# Altium schematic symbol library BLDC_Motor_Driver.SCHLIB: 68 symbols (part 1 of 2)
Pins are listed as number, name and electrical type; pins without a type are passive.

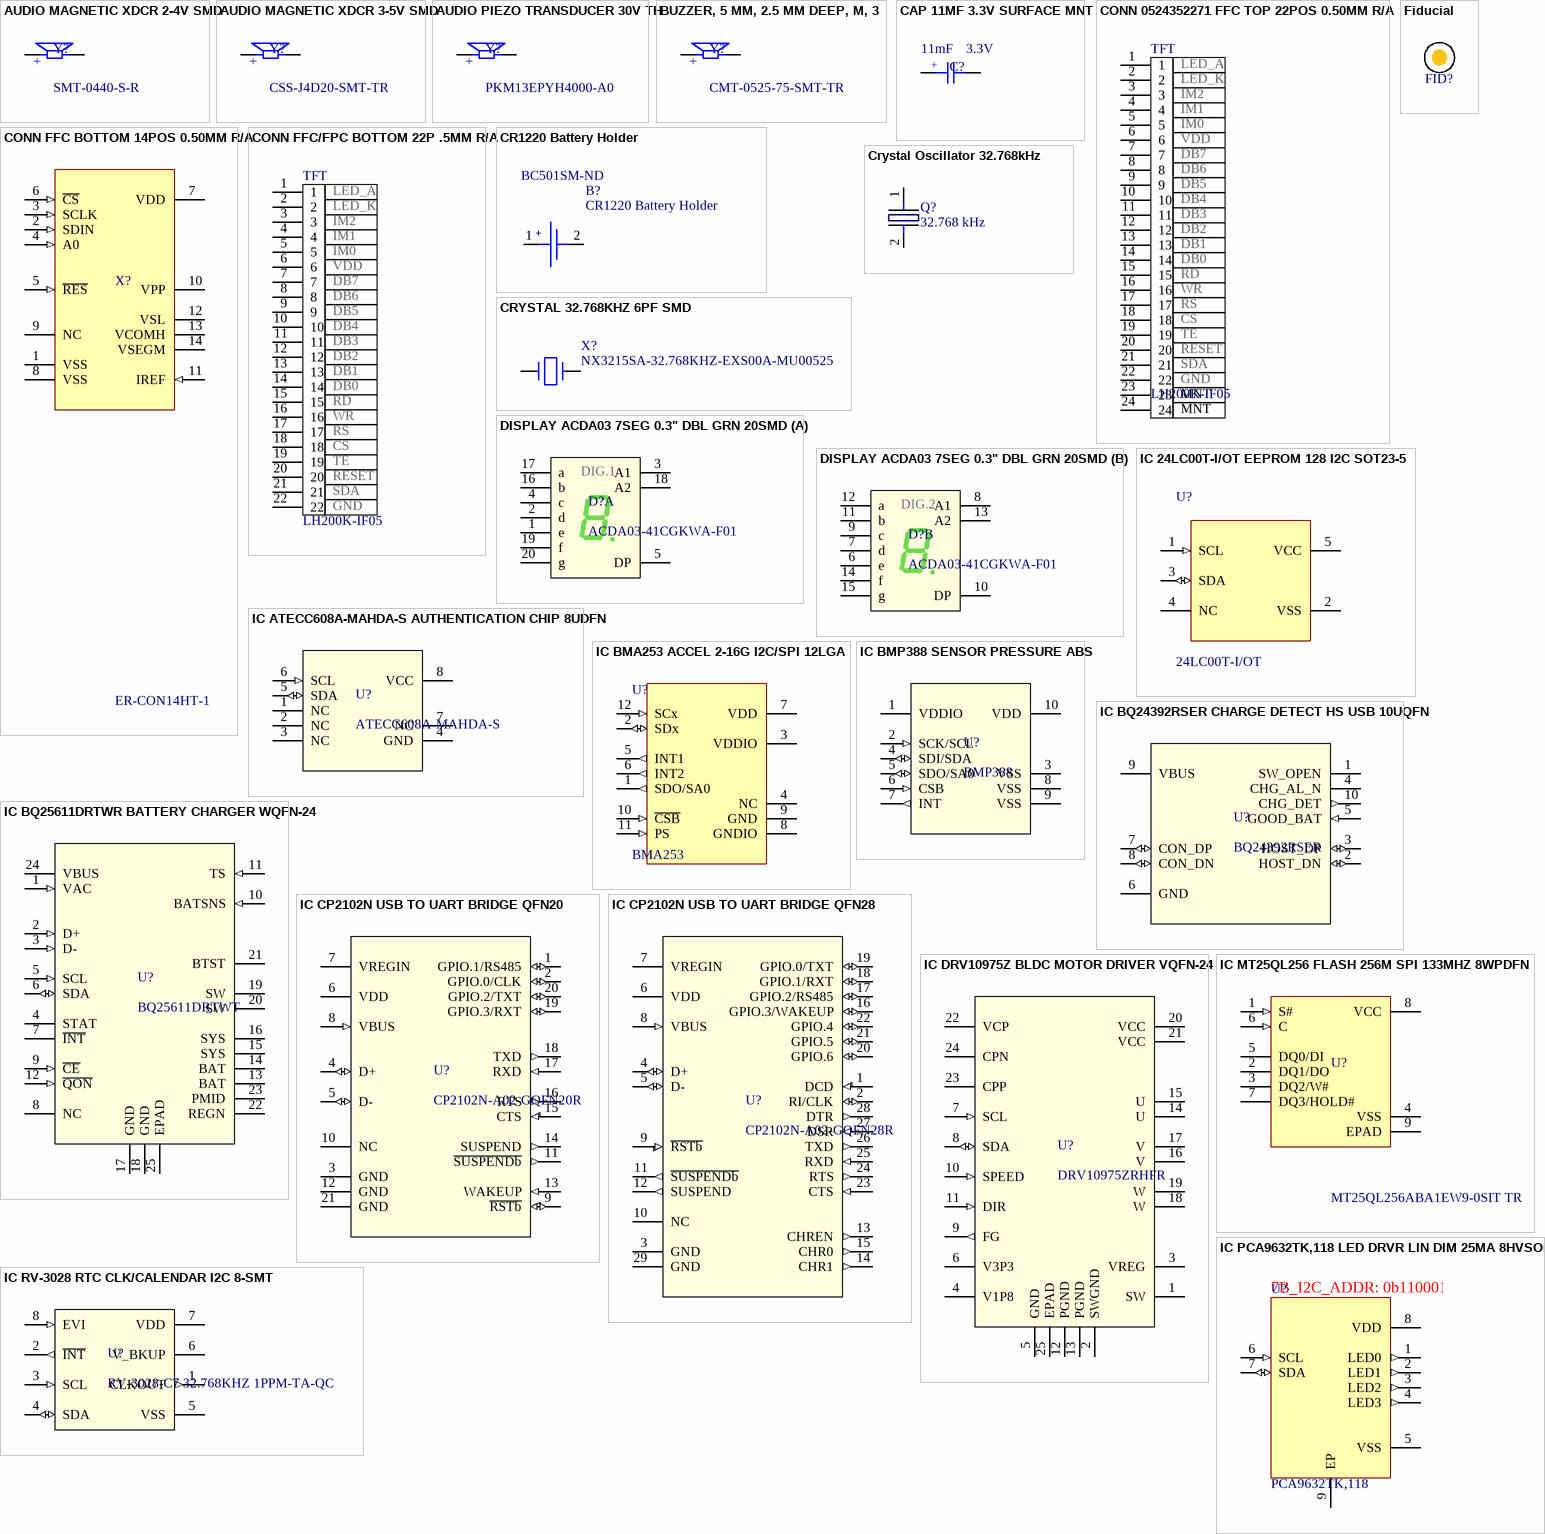
[diagram p0: symbols AUDIO MAGNETIC XDCR 2-4V SMD to IC RV-3028 RTC CLK/CALENDAR I2C 8-SMT]

## AUDIO MAGNETIC XDCR 2-4V SMD
designator Y?, comment SMT-0440-S-R
Buzzers Transducer, Externally Driven 90mA 4kHz 70dB @ 3V, 10cm Surface Mount Solder Pads; Manufacturer: Projects Unlimited; Sensing Method: Magnetic; Supplier 1: Digi-Key; Manufacturer Part Number: SMT-0440-S-R; Stock 1: 4568; Pricing 1: 1=3.25, 10=2.689, 25=2.4812, 50=2.3302, 100=2.185, 500=1.885 (USD); Mount: Surface Mount; Min Operating Temperature: -20°C; Max Operating Temperature: 70°C; Packaging: Tape and Reel; Voltage Rating: 3V; Frequency: 4kHz; Operating Supply Current: 90mA; Termination: Solder; Length: 4mm; Width: 4mm; ComponentLink1URL: http://www.puiaudio.com/pdf/SMT-0440-S-R.pdf?src-supplier=Avnet; ComponentLink1Description: http://www.puiaudio.com/pdf/SMT-0440-S-R.pdf?src-supplier=Avnet; ComponentLink2URL: http://www.mouser.com/ds/2/334/SMT-0440-S-R-535654.pdf?src-supplier=Mouser; ComponentLink2Description: http://www.mouser.com/ds/2/334/SMT-0440-S-R-535654.pdf?src-supplier=Mouser; ComponentLink3URL: http://www.puiaudio.com/pdf/SMT-0440-S-R.pdf?src-supplier=Digi-Key; ComponentLink3Description: http://www.puiaudio.com/pdf/SMT-0440-S-R.pdf?src-supplier=Digi-Key; Supplier Part Number 1: 668-1488-1-ND
footprint SMT-0440-S-R_PUI (Buzzers Transducer, Externally Driven 90mA 4kHz 70dB @ 3V, 10cm Surface Mount Solder Pads)
pins: 1, 2
text: +

## AUDIO MAGNETIC XDCR 3-5V SMD
designator Y?, comment CSS-J4D20-SMT-TR
Buzzers Transducer, Externally Driven Magnetic 3.6V 80mA 3.1kHz 90dB @ 3.6V, 5cm Surface Mount Solder Pads; Manufacturer: CUI; Supplier 1: Arrow; Manufacturer Part Number: CSS-J4D20-SMT-TR; Stock 1: 2000; Pricing 1: 1000=1.244, 1000=1.326, 20000=1.092, 50000=1.03 (USD); Mount: Surface Mount; Case/Package: SMD/SMT; Min Operating Temperature: -40°C; Max Operating Temperature: 70°C; Package Quantity: 1000; Packaging: Cut Tape; Frequency: 3.1kHz; Voltage Rating: 3.6V; Operating Supply Current: 80mA; Termination: Solder; Sensing Method: Magnetic; Length: 8.5mm; Height: 3.7mm; Width: 8.5mm; Lead Free: Lead Free; ComponentLink1URL: https://www.cui.com/product/resource/digikeypdf/css-j4d20-smt.pdf?src-supplier=Digi-Key; ComponentLink1Description: https://www.cui.com/product/resource/digikeypdf/css-j4d20-smt.pdf?src-supplier=Digi-Key; ComponentLink2URL: http://www.cui.com/product/resource/digikeypdf/css-j4d20-smt.pdf?src-supplier=Digi-Key; ComponentLink2Description: http://www.cui.com/product/resource/digikeypdf/css-j4d20-smt.pdf?src-supplier=Digi-Key; ComponentLink3URL: http://www.mouser.com/ds/2/670/css-j4d20-smt-515991.pdf?src-supplier=Mouser; ComponentLink3Description: http://www.mouser.com/ds/2/670/css-j4d20-smt-515991.pdf?src-supplier=Mouser; Supplier Part Number 1: CSS-J4D20-SMT-TR
footprint CUI_CSS-J4D20-SMT
pins: M1 M, M2 M, P1 P, P2 P
text: +

## AUDIO PIEZO TRANSDUCER 30V TH
designator Y?, comment PKM13EPYH4000-A0
Buzzers Transducer, Externally Driven Piezo 1.5V  4kHz 70dB @ 1.5V, 10cm Through Hole PC Pins; Manufacturer: Murata; Max Supply Voltage: 25V; Capacitance: 5.5nF; Voltage Rating: 3V; Voltage Rating (DC): 30V; Washable: No; Supplier 1: Digi-Key; Manufacturer Part Number: PKM13EPYH4000-A0; Stock 1: 4518; Pricing 1: 1=0.35, 10=0.296, 25=0.2772, 50=0.2628, 100=0.2489 (USD); Mount: Through Hole; Min Operating Temperature: -40°C; Max Operating Temperature: 85°C; Termination: Solder; Frequency: 4kHz; Self Resonant Frequency: 4kHz; Package Quantity: 500; Packaging: Bulk; Nominal Input Voltage: 3V; Max Frequency: 4kHz; Diameter: 12.6mm; Height: 6.9mm; Radiation Hardening: No; REACH SVHC: No SVHC; Lead Free: Lead Free; ComponentLink1URL: http://www.farnell.com/datasheets/9058.pdf?src-supplier=Element14; ComponentLink1Description: http://www.farnell.com/datasheets/9058.pdf?src-supplier=Element14; ComponentLink2URL: http://search.murata.co.jp/Ceramy/CatalogAction.do?sHinnm=?&nbsp&sNHinnm=PKM13EPYH4000-A0&sNhin_key=PKM13EPYH4000-A0&sLang=en&sParam=PKM13EPYH4000-A0&src-supplier=Avnet; ComponentLink2Description: http://search.murata.co.jp/Ceramy/CatalogAction.do?sHinnm=?&nbsp&sNHinnm=PKM13EPYH4000-A0&sNhin_key=PKM13EPYH4000-A0&sLang=en&sParam=PKM13EPYH4000-A0&src-supplier=Avnet; ComponentLink3URL: https://www.distrelec.biz/Web/Downloads/70/82/03787082.pdf?mime=application%2Fpdf&src-supplier=Distrelec; ComponentLink3Description: https://www.distrelec.biz/Web/Downloads/70/82/03787082.pdf?mime=application%2Fpdf&src-supplier=Distrelec; ComponentLink4URL: https://www.murata.com/en-sg/products/productdata/8796725772318/S0040E.pdf?src-supplier=Digi-Key; ComponentLink4Description: https://www.murata.com/en-sg/products/productdata/8796725772318/S0040E.pdf?src-supplier=Digi-Key; ComponentLink5URL: http://www.jameco.com/Jameco/Products/ProdDS/1874535.pdf?src-supplier=Jameco; ComponentLink5Description: http://www.jameco.com/Jameco/Products/ProdDS/1874535.pdf?src-supplier=Jameco; Supplier Part Number 1: 490-4698-1-ND
pins: 1 OSC1, 2 OSC2
text: +

## BUZZER, 5 MM, 2.5 MM DEEP, M, 3
designator Y?, comment CMT-0525-75-SMT-TR
Buzzers Transducer, Externally Driven Magnetic 3V 100mA 4kHz 75dB @ 3V, 10cm Surface Mount Solder Pads; Manufacturer: CUI Devices; Frequency: 4 MHz; Impedance: 12 Ohms; Shape: Square; Product Status: New Product; Supplier 1: Mouser; Manufacturer Part Number: CMT-0525-75-SMT-TR; Category: Speakers & Transducers; Stock 1: 1445; Pricing 1: 1=2.04, 10=1.61, 25=1.47, 50=1.37, 100=1.28, 250=1.16, 500=1.11, 1000=1.07, 2000=1.07 (USD); Current Rating: 100 mA; Dimensions: 5 mm L x 5 mm W x 2.5 mm H; Height: 2.5 mm; Length: 5 mm; Packaging: Cut Tape; Product: Transducers; Sound Pressure Level: 75 dB; Termination Style: SMD/SMT; Type: Electromagnetic; Voltage Rating: 3 V; Width: 5 mm; Brand: CUI Devices; Mounting Style: Board Mount; Maximum Operating Temperature: + 85 C; Minimum Operating Temperature: - 40 C; Product Type: Speakers & Transducers; Standard Pack Qty: 2000; Subcategory: Audio Devices; Minimum Order Quantity: 1; Reeling: True; ComponentLink1URL: https://www.mouser.com/datasheet/2/670/cmt-0525-75-smt-tr-1777256.pdf; ComponentLink1Description: https://www.mouser.com/datasheet/2/670/cmt-0525-75-smt-tr-1777256.pdf; Supplier 2: Digi-Key; Supplier Part Number 1: 490-CMT-0525-75SMTTR; Supplier Part Number 2: 102-CMT-0525-75-SMT-CT-ND
pins: 1 OSC1, 2 OSC2
text: +

## CAP 11MF 3.3V SURFACE MNT
designator C?  Capacitance: 11mF  Voltage Rating: 3.3V
11mF (EDLC) Supercapacitor 3.3V 1210 (3225 Metric); Manufacturer: Seiko; Manufacturer Part Number: CPH3225A; ESR (Equivalent Series Resistance): 160R; Supplier 1: Digi-Key; Stock 1: 48098; Pricing 1: 1=2.02, 10=1.634, 50=1.4256, 100=1.2474, 500=0.9504, 1000=0.8316, 2500=0.8019, 5000=0.7722 (USD); Mount: Surface Mount; Case/Package: 1210; Case Code (Metric): 3225; Case Code (Imperial): 1210; Min Operating Temperature: -20°C; Max Operating Temperature: 60°C; Package Quantity: 2000; Packaging: Tape and Reel; Voltage Rating (DC): 3.3V; Termination: SMD/SMT; Length: 3.2mm; Height: 0.9mm; Width: 2.5mm; Height - Seated (Max): 0.035inch; ComponentLink1URL: http://www.sii.co.jp/en/me/datasheets/chip-capacitor/cph3225a/?src-supplier=Mouser; ComponentLink1Description: http://www.sii.co.jp/en/me/datasheets/chip-capacitor/cph3225a/?src-supplier=Mouser; ComponentLink2URL: http://www.sii-components.com/document/en/battery/Chip_Capacitor_E.pdf?src-supplier=Avnet+Asia; ComponentLink2Description: http://www.sii-components.com/document/en/battery/Chip_Capacitor_E.pdf?src-supplier=Avnet+Asia; ComponentLink3URL: https://media.digikey.com/pdf/Data%20Sheets/Seiko%20Instruments%20PDFs/CPH3225A_CP3225A.pdf?src-supplier=Digi-Key; ComponentLink3Description: https://media.digikey.com/pdf/Data%20Sheets/Seiko%20Instruments%20PDFs/CPH3225A_CP3225A.pdf?src-supplier=Digi-Key; Supplier Part Number 1: 728-1127-1-ND
footprint CAPCP3225X100N
pins: 1, 2
text: +

## CONN 0524352271 FFC TOP 22POS 0.50MM R/A
designator TFT, comment LH200K-IF05  pin_1: LED_A  pin_2: LED_K  pin_3: IM2  pin_4: IM1  pin_5: IM0  pin_6: VDD  pin_7: DB7  pin_8: DB6  pin_9: DB5  pin_10: DB4  pin_11: DB3  pin_12: DB2  pin_13: DB1  pin_14: DB0  pin_15: RD  pin_16: WR  pin_17: RS  pin_18: CS  pin_19: TE  pin_20: RESET  pin_21: SDA  pin_22: GND  pin_23: MNT
22 Position FFC, FPC Connector Contacts, Top 0.020" (0.50mm) Surface Mount, Right Angle; Manufacturer: Molex; Manufacturer Part Number: 0524352271; Actuator Material: Polyphenylene; Current Rating: 500mA; Voltage Rating: 50V; Number of Positions: 22; Wire/Cable Type: Straight; Pitch: 0.5mm; Supplier 1: Digi-Key; Stock 1: 4239; Pricing 1: 1=2.18, 10=1.978, 25=1.8564, 50=1.7758, 100=1.6951, 250=1.5337, 500=1.4126 (USD); Mount: Surface Mount; Contact Material: Bronze; Contact Plating: Gold; Housing Material: Nylon; Min Operating Temperature: -40°C; Max Operating Temperature: 85°C; Package Quantity: 1; Packaging: Tape and Reel; Number of Rows: 1; Termination: Solder; Max Voltage Rating (AC): 50V; Max Voltage Rating (DC): 50V; Orientation: Right Angle; Length: 17.6mm; Depth: 4.7mm; Radiation Hardening: No; Flammability Rating: UL94 V-0; ComponentLink1URL: https://www.verical.com/server-webapp/html/getDatasheet?partID=448906&src-supplier=Verical; ComponentLink1Description: https://www.verical.com/server-webapp/html/getDatasheet?partID=448906&src-supplier=Verical; ComponentLink2URL: http://components.arrow.com/part/dataview/0323_03515907?src-supplier=Arrow+Europe; ComponentLink2Description: http://components.arrow.com/part/dataview/0323_03515907?src-supplier=Arrow+Europe; Supplier Part Number 1: WM6753CT-ND; pin_24: MNT
footprint CONN_0524352271 (Footprint not found)
pins: 1, 2, 3, 4, 5, 6, 7, 8, 9, 10, 11, 12, 13, 14, 15, 16, 17, 18, 19, 20, 21, 22, 23, 24

## CONN FFC BOTTOM 14POS 0.50MM R/A
designator X?, comment ER-CON14HT-1
14 Position FFC, FPC Connector Contacts, Top 0.020" (0.50mm) Surface Mount, Right Angle; Manufacturer Part Number: ER-CON14HT-1
footprint ER-CON14HT-1 (CONN FFC TOP 14POS 0.50MM R/A)
pins: 1 VSS (power), 2 SDIN (in), 3 SCLK (in), 4 A0 (in), 5 ~{RES} (in), 6 ~{CS} (in), 7 VDD (power), 8 VSS (power), 9 NC, 10 VPP (power), 11 IREF (in), 12 VSL (power), 13 VCOMH (power), 14 VSEGM (power)

## CONN FFC/FPC BOTTOM 22P .5MM R/A
designator TFT, comment LH200K-IF05  pin_1: LED_A  pin_2: LED_K  pin_3: IM2  pin_4: IM1  pin_5: IM0  pin_6: VDD  pin_7: DB7  pin_8: DB6  pin_9: DB5  pin_10: DB4  pin_11: DB3  pin_12: DB2  pin_13: DB1  pin_14: DB0  pin_15: RD  pin_16: WR  pin_17: RS  pin_18: CS  pin_19: TE  pin_20: RESET  pin_21: SDA  pin_22: GND
22 Position FFC, FPC Connector Contacts, Bottom 0.020" (0.50mm) Surface Mount, Right Angle; Manufacturer: Molex; Manufacturer Part Number: 505110-2291; Actuator Material: Nylon,Glass,Polyamide; Number of Positions: 22; Voltage Rating: 50V; Current Rating: 500mA; Gender: Receptacle; Mating Cycles: 25; Pitch: 0.5mm; Supplier 1: Digi-Key; Stock 1: 12389; Pricing 1: 1=0.91, 10=0.798, 25=0.7508, 50=0.7196, 100=0.6882, 250=0.6257, 500=0.5631, 1000=0.5005 (USD); Mount: Surface Mount; Number of Pins: 22; Contact Material: Bronze; Contact Plating: Gold; Housing Material: Polymer; Housing Color: Beige; Min Operating Temperature: -40°C; Max Operating Temperature: 105°C; Packaging: Cut Tape; Termination: Solder; Number of Circuits: 22; Number of Rows: 1; Orientation: Right Angle; Number of Contacts: 22; Height: 1.9mm; REACH SVHC: Unknown; Halogen Free: Low Halogen; Flammability Rating: UL94 V-0; ComponentLink1URL: https://media.digikey.com/pdf/Data%20Sheets/Molex%20PDFs/FFC-FPC_Connectors.pdf?src-supplier=Digi-Key; ComponentLink1Description: https://media.digikey.com/pdf/Data%20Sheets/Molex%20PDFs/FFC-FPC_Connectors.pdf?src-supplier=Digi-Key; ComponentLink2URL: https://www.molex.com/pdm_docs/sd/5051102291_sd.pdf?src-supplier=Digi-Key; ComponentLink2Description: https://www.molex.com/pdm_docs/sd/5051102291_sd.pdf?src-supplier=Digi-Key; ComponentLink3URL: http://www.alliedelec.com/images/products/datasheets/bm/MOLEX/70606839.pdf?src-supplier=Allied+Electronics; ComponentLink3Description: http://www.alliedelec.com/images/products/datasheets/bm/MOLEX/70606839.pdf?src-supplier=Allied+Electronics; ComponentLink4URL: http://www.molex.com/pdm_docs/sd/5051102091_sd.pdf?src-supplier=Avnet; ComponentLink4Description: http://www.molex.com/pdm_docs/sd/5051102091_sd.pdf?src-supplier=Avnet; ComponentLink5URL: http://www.farnell.com/datasheets/2215491.pdf?src-supplier=Farnell; ComponentLink5Description: http://www.farnell.com/datasheets/2215491.pdf?src-supplier=Farnell; ComponentLink6URL: http://www.farnell.com/datasheets/2215491.pdf?src-supplier=Newark; ComponentLink6Description: http://www.farnell.com/datasheets/2215491.pdf?src-supplier=Newark; ComponentLink7URL: http://www.farnell.com/datasheets/2215491.pdf?src-supplier=Element14; ComponentLink7Description: http://www.farnell.com/datasheets/2215491.pdf?src-supplier=Element14; ComponentLink8URL: http://www.farnell.com/datasheets/1966494.pdf?src-supplier=Element14; ComponentLink8Description: http://www.farnell.com/datasheets/1966494.pdf?src-supplier=Element14; Supplier Part Number 1: WM11288CT-ND
footprint CONN_505110-2291
pins: 1, 2, 3, 4, 5, 6, 7, 8, 9, 10, 11, 12, 13, 14, 15, 16, 17, 18, 19, 20, 21, 22

## CR1220 Battery Holder
designator B?  Supplier Part Number 1: BC501SM-ND
BATTERY HOLDER COIN 12MM SMD; Manufacturer: Memory Protection Devices; Manufacturer Part Number: BC501SM; Number of Cells: 1; Supplier 1: Digi-Key; Stock 1: 10446; Pricing 1: 1=1.03, 10=0.872, 50=0.764, 100=0.7203, 250=0.6631, 500=0.6227, 1000=0.5823, 2500=0.5318, 5000=0.4914 (USD); Mount: Surface Mount,PCB; Case/Package: SMD/SMT; Min Operating Temperature: -40°C; Max Operating Temperature: 85°C; Package Quantity: 200; Termination: SMD/SMT; ComponentLink1URL: https://media.digikey.com/pdf/Data%20Sheets/Memory%20Protection%20PDFs/Coin_Cell_Guide.pdf?src-supplier=Digi-Key; ComponentLink1Description: https://media.digikey.com/pdf/Data%20Sheets/Memory%20Protection%20PDFs/Coin_Cell_Guide.pdf?src-supplier=Digi-Key
footprint BC501SM (Battery Holder)
pins: 1 +, 2 -

## CRYSTAL 32.768KHZ 6PF SMD
designator X?, comment NX3215SA-32.768KHZ-EXS00A-MU00525
32.768kHz  Crystal 6pF 70 kOhms 2-SMD, No Lead; Manufacturer: NDK; ESR (Equivalent Series Resistance): 70kR; Supplier 1: Digi-Key; Manufacturer Part Number: NX3215SA-32.768KHZ-EXS00A-MU00525; Stock 1: 5687; Pricing 1: 1=0.68, 10=0.602, 50=0.5628, 100=0.4974, 500=0.4712, 1000=0.3927 (USD); Mount: Surface Mount; Case/Package: SMD/SMT; Min Operating Temperature: -40°C; Max Operating Temperature: 85°C; Packaging: Tape and Reel; Frequency: 32.768kHz; Load Capacitance: 6pF; Ratings: AEC-Q200; Supplier Part Number 1: 644-1386-1-ND
footprint XTAL1 (Footprint not found)
footprint XTAL_2SM_3R2X1R5 (Footprint not found)
pins: 1, 2
2 alternate drawings of the same symbol

## Crystal Oscillator 32.768kHz
designator Q?, comment 32.768 kHz
Epson 32.76kHz Crystal Unit 2-Pin 2 Dia. x 6mm; Suppiler 1: RS; Supplier Number: 184-9355; Frequency: 32.768 kHz; Supplier 1: Digi-Key; Supplier Part Number 1: SER3205-ND
footprint C-002RX (Crystal)
pins: 1 "clock", 2 "clock"

## DISPLAY ACDA03 7SEG 0.3" DBL GRN 20SMD
designator D?, comment ACDA03-41CGKWA-F01
Display Modules - LED Character and Numeric Green 7-Segment 2 Character Common Anode 2.1V 20mA 0.394" H x 0.583" W x 0.148" D (10.00mm x 14.80mm x 3.75mm) 20-SMD, No Lead; Manufacturer: Kingbright; Max Power Dissipation: 75mW; Number of Characters: 2; Wavelength: 574nm; Luminous Intensity: 12mcd; Supplier 1: Digi-Key; Manufacturer Part Number: ACDA03-41CGKWA-F01; Stock 1: 4188; Pricing 1: 1=5.04, 10=4.2, 100=2.94 (USD); Mount: Surface Mount; Case/Package: SMD/SMT; Color: Green; Min Operating Temperature: -40°C; Max Operating Temperature: 85°C; Package Quantity: 1; Element Configuration: Common Anode; Forward Current: 20mA; Forward Voltage: 2.1V; Illumination Color: Green; Packaging: Cut Tape; Power Consumption: 75mW; Test Current: 20mA; Length: 0.472inch; Height: 0.394inch; Width: 0.583inch; Lead Free: Lead Free; ComponentLink1URL: http://www.kingbrightusa.com/images/catalog/SPEC/ACDA03-41CGKWA-F01.pdf?src-supplier=Digi-Key; ComponentLink1Description: http://www.kingbrightusa.com/images/catalog/SPEC/ACDA03-41CGKWA-F01.pdf?src-supplier=Digi-Key; ComponentLink2URL: http://www.mouser.com/ds/2/216/ACDA03-41CGKWA-F01-52730.pdf?src-supplier=Mouser; ComponentLink2Description: http://www.mouser.com/ds/2/216/ACDA03-41CGKWA-F01-52730.pdf?src-supplier=Mouser; Supplier 2: Mouser; Supplier Part Number 1: 754-1629-1-ND; Supplier Part Number 2: 604-ACDA03-41CGKWA
footprint SON150P1200X1480X375-20N
part A pins: 1 e, 2 d, 3 A1, 4 c, 5 DP, 16 b, 17 a, 18 A2, 19 f, 20 g
part B pins: 6 e, 7 d, 8 A1, 9 c, 10 DP, 11 b, 12 a, 13 A2, 14 f, 15 g
part A text: DIG.1
part B text: DIG.2

## Fiducial
designator FID?, comment N/A  (value not drawn)  (no BOM)
Fiducial mark.  There is nothing to buy or mount.; ClassName: FiducialMark; CompType: Fiducial; Manufacturer: N/A; MountType: N/A; PackageReference: Fiducial; Manufacturer Part Number: N/A
footprint Fiducial (Fiducial Mark)
footprint FIDUCIAL_SMALL

## IC 24LC00T-I/OT EEPROM 128 I2C SOT23-5
designator U?, comment 24LC00T-I/OT
EEPROM Memory IC 128b (16 x 8) I²C 400kHz 3500ns SOT-23-5; Manufacturer: Microchip; Min Supply Voltage: 2.5V; Max Supply Voltage: 5.5V; Interface: I2C,2-Wire,Serial; Access Time: 900ns; Nominal Supply Current: 2mA; Supplier 1: Digi-Key; Manufacturer Part Number: 24LC00T-I/OT; Stock 1: 29747; Pricing 1: 1=0.19, 100=0.1785 (USD); Mount: Surface Mount; Case/Package: SOT-23; Number of Pins: 5; Contact Plating: Tin,Matte; Min Operating Temperature: -40°C; Max Operating Temperature: 85°C; Density: 128b; Frequency: 400kHz; Packaging: Tape and Reel; Package Quantity: 3000; Memory Type: EEPROM; Memory Size: 128b; Max Frequency: 400kHz; Length: 3.1mm; Height: 1.3mm; Width: 1.8mm; Radiation Hardening: No; REACH SVHC: No SVHC; Lead Free: Lead Free; ComponentLink1URL: http://www.farnell.com/datasheets/1669367.pdf?src-supplier=Element14; ComponentLink1Description: http://www.farnell.com/datasheets/1669367.pdf?src-supplier=Element14; ComponentLink2URL: http://ww1.microchip.com/downloads/en/DeviceDoc/21178H.pdf?src-supplier=Avnet+Europe; ComponentLink2Description: http://ww1.microchip.com/downloads/en/DeviceDoc/21178H.pdf?src-supplier=Avnet+Europe; ComponentLink3URL: http://www.microchip.com/mymicrochip/filehandler.aspx?ddocname=en011773&src-supplier=Future+Electronics; ComponentLink3Description: http://www.microchip.com/mymicrochip/filehandler.aspx?ddocname=en011773&src-supplier=Future+Electronics; ComponentLink4URL: https://www.distrelec.biz/Web/Downloads/_t/ds/24AA00_24LC00_24C00_eng_tds.pdf?mime=application%2Fpdf&src-supplier=Distrelec; ComponentLink4Description: https://www.distrelec.biz/Web/Downloads/_t/ds/24AA00_24LC00_24C00_eng_tds.pdf?mime=application%2Fpdf&src-supplier=Distrelec; ComponentLink5URL: https://www.verical.com/server-webapp/html/getDatasheet?partID=790518&src-supplier=Verical; ComponentLink5Description: https://www.verical.com/server-webapp/html/getDatasheet?partID=790518&src-supplier=Verical; ComponentLink6URL: http://www.produktinfo.conrad.com/datenblaetter/1000000-1099999/001085284-da-01-en-IC_EEPROM_128B_24LC00T_I_OT_SOT_23_5_MCP.pdf?src-supplier=Conrad; ComponentLink6Description: http://www.produktinfo.conrad.com/datenblaetter/1000000-1099999/001085284-da-01-en-IC_EEPROM_128B_24LC00T_I_OT_SOT_23_5_MCP.pdf?src-supplier=Conrad; Supplier Part Number 1: 24LC00T-I/OTCT-ND
footprint SOT-23-5
pins: 1 SCL (in), 2 VSS (power), 3 SDA (io), 4 NC, 5 VCC (power)

## IC ATECC608A-MAHDA-S AUTHENTICATION CHIP 8UDFN
designator U?, comment ATECC608A-MAHDA-S
Authentication Chip 8-UDFN (2x3); Manufacturer: Microchip; Supplier 1: Digi-Key; Manufacturer Part Number: ATECC608A-MAHDA-S; Stock 1: 2773; Pricing 1: 1=0.75, 25=0.7244, 100=0.6563 (USD); Mount: Surface Mount; Packaging: Cut Tape; ComponentLink1URL: http://ww1.microchip.com/downloads/en/DeviceDoc/40001977A.pdf?src-supplier=Farnell; ComponentLink1Description: http://ww1.microchip.com/downloads/en/DeviceDoc/40001977A.pdf?src-supplier=Farnell; ComponentLink2URL: http://ww1.microchip.com/downloads/en/DeviceDoc/40001977A.pdf?src-supplier=Newark; ComponentLink2Description: http://ww1.microchip.com/downloads/en/DeviceDoc/40001977A.pdf?src-supplier=Newark; ComponentLink3URL: http://ww1.microchip.com/downloads/en/DeviceDoc/40001977A.pdf?src-supplier=Element14; ComponentLink3Description: http://ww1.microchip.com/downloads/en/DeviceDoc/40001977A.pdf?src-supplier=Element14; ComponentLink4URL: http://www.microchip.com/mymicrochip/filehandler.aspx?ddocname=en601565&src-supplier=Digi-Key; ComponentLink4Description: http://www.microchip.com/mymicrochip/filehandler.aspx?ddocname=en601565&src-supplier=Digi-Key; Supplier Part Number 1: ATECC608A-MAHDA-SCT-ND
footprint UDFN8_2x3MC_MCH (8-UFDFN Exposed Pad)
pins: 1 NC, 2 NC, 3 NC, 4 GND (power), 5 SDA (io), 6 SCL (in), 7 NC, 8 VCC (power)

## IC BMA253 ACCEL 2-16G I2C/SPI 12LGA
designator U?, comment BMA253
Accelerometer X, Y, Z Axis ±2g, 4g, 8g, 16g 8Hz ~ 1kHz 12-LGA (2x2); Manufacturer: Bosch Sensortec; Output Type: SPI,I2C; Axis: X, Y, Z; Supplier 1: Digi-Key; Manufacturer Part Number: BMA253; Stock 1: 49895; Pricing 1: 1=1.73, 5=1.666, 10=1.353, 25=1.1656, 50=1.0094, 100=0.9158, 500=0.7701, 1000=0.6868, 5000=0.63 (USD); Mount: Surface Mount; Case/Package: LGA; Number of Pins: 12; Min Operating Temperature: -40°C; Max Operating Temperature: 85°C; Packaging: Tape and Reel; Bandwidth: 8Hz; ComponentLink1URL: https://ae-bst.resource.bosch.com/media/_tech/media/application_notes/BST-MAS-HS000-05.pdf?src-supplier=Digi-Key; ComponentLink1Description: https://ae-bst.resource.bosch.com/media/_tech/media/application_notes/BST-MAS-HS000-05.pdf?src-supplier=Digi-Key; ComponentLink2URL: https://ae-bst.resource.bosch.com/media/_tech/media/application_notes/BST-MAS-HS000.pdf?src-supplier=Digi-Key; ComponentLink2Description: https://ae-bst.resource.bosch.com/media/_tech/media/application_notes/BST-MAS-HS000.pdf?src-supplier=Digi-Key; Supplier Part Number 1: 828-1071-1-ND
footprint LGA12C50P4X4_200X200X100 (LGA, 12-Leads, Body 2.00x2.00mmx1.00mm, Pitch 0.50mm)
pins: 1 SDO/SA0 (out), 2 SDx (io), 3 VDDIO (power), 4 NC, 5 INT1 (out), 6 INT2 (out), 7 VDD (power), 8 GNDIO (power), 9 GND (power), 10 ~{CSB} (in), 11 PS (in), 12 SCx (in)

## IC BMP388 SENSOR PRESSURE ABS
designator U?, comment BMP388
Pressure Sensor 4.35PSI ~ 18.13PSI (30kPa ~ 125kPa) Absolute   10-WFLGA; Manufacturer: Bosch Sensortec; Output Type: SPI,I2C; Port Style: No Port; Drain to Source Voltage (Vdss): 30V; Continuous Drain Current (ID): 4A; Rds On Max: 50mR; Input Capacitance: 645pF; Max Power Dissipation: 1.4W; Capacitance: 4.7uF; Tolerance: 20%; Voltage Rating: 16V; Supplier 1: Digi-Key; Manufacturer Part Number: BMP388; Stock 1: 30816; Pricing 1: 1=3.81, 5=3.366, 10=2.973, 25=2.4124, 50=2.1318, 100=2.0757, 500=1.7391, 1000=1.6269, 5000=1.5147 (USD); Mount: Surface Mount; Case/Package: LGA; Number of Pins: 10; Case Code (Imperial): 0805; Case Code (Metric): 2012; Min Operating Temperature: -55°C; Max Operating Temperature: 150°C; Features: Soft Termination; Pressure Type: Absolute; Operating Pressure: 18.13PSI; Termination: SMD/SMT; Packaging: Tape and Reel; Ratings: AEC-Q200; ComponentLink1URL: https://ae-bst.resource.bosch.com/media/_tech/media/datasheets/BST-BMP388-DS001.pdf?src-supplier=Digi-Key; ComponentLink1Description: https://ae-bst.resource.bosch.com/media/_tech/media/datasheets/BST-BMP388-DS001.pdf?src-supplier=Digi-Key; ComponentLink2URL: https://ae-bst.resource.bosch.com/media/_tech/media/product_flyer/BST-BMP388-FL000-00.pdf?src-supplier=Digi-Key; ComponentLink2Description: https://ae-bst.resource.bosch.com/media/_tech/media/product_flyer/BST-BMP388-FL000-00.pdf?src-supplier=Digi-Key; ComponentLink3URL: https://ae-bst.resource.bosch.com/media/_tech/media/application_notes/BST-BMP380-HS000.pdf?src-supplier=Digi-Key; ComponentLink3Description: https://ae-bst.resource.bosch.com/media/_tech/media/application_notes/BST-BMP380-HS000.pdf?src-supplier=Digi-Key; Supplier Part Number 1: 828-1079-1-ND
footprint QFN_BMP388_BOS
pins: 1 VDDIO (power), 2 SCK/SCL (in), 3 VSS (power), 4 SDI/SDA (io), 5 SDO/SA0 (io), 6 CSB (in), 7 INT (out), 8 VSS (power), 9 VSS (power), 10 VDD (power)

## IC BQ24392RSER CHARGE DETECT HS USB 10UQFN
designator U?, comment BQ24392RSER
Battery Multi-Function Controller IC  10-UQFN (2.0x1.5); Manufacturer: Texas Instruments; Interface: USB; Bandwidth: 920MHz; Max Supply Voltage: 5.25V; Min Supply Voltage: 4.75V; On-State Resistance: 8R; Number of Channels: 2; Operating Supply Voltage: 5V; Supplier 1: Digi-Key; Manufacturer Part Number: BQ24392RSER; Stock 1: 7267; Pricing 1: 1=0.89, 10=0.797, 25=0.756, 100=0.5805, 250=0.513, 500=0.486, 1000=0.378 (USD); Mount: Surface Mount; Number of Pins: 10; Weight: 0.000353oz; Contact Plating: Gold; Min Operating Temperature: -40°C; Max Operating Temperature: 85°C; Packaging: Tape and Reel; Package Quantity: 3000; Length: 1.5mm; Radiation Hardening: No; REACH SVHC: No SVHC; Lead Free: Lead Free; ComponentLink1URL: http://www.ti.com/general/docs/lit/getliterature.tsp?genericPartNumber=BQ24392&&fileType=pdf&src-supplier=Avnet; ComponentLink1Description: http://www.ti.com/general/docs/lit/getliterature.tsp?genericPartNumber=BQ24392&&fileType=pdf&src-supplier=Avnet; ComponentLink2URL: https://www.verical.com/server-webapp/html/getDatasheet?partID=543706&src-supplier=Verical; ComponentLink2Description: https://www.verical.com/server-webapp/html/getDatasheet?partID=543706&src-supplier=Verical; ComponentLink3URL: http://www.ti.com/lit/ds/slis146a/slis146a.pdf?src-supplier=Avnet+Europe; ComponentLink3Description: http://www.ti.com/lit/ds/slis146a/slis146a.pdf?src-supplier=Avnet+Europe; ComponentLink4URL: http://www.farnell.com/datasheets/2020408.pdf?src-supplier=Element14; ComponentLink4Description: http://www.farnell.com/datasheets/2020408.pdf?src-supplier=Element14; ComponentLink5URL: http://www.ti.com/lit/gpn/bq24392?src-supplier=Mouser; ComponentLink5Description: http://www.ti.com/lit/gpn/bq24392?src-supplier=Mouser; Supplier Part Number 1: 296-37689-1-ND
footprint RSE10_TEX
pins: 1 SW_OPEN (oc), 2 HOST_DN (io), 3 HOST_DP (io), 4 CHG_AL_N (oc), 5 GOOD_BAT (in), 6 GND (power), 7 CON_DP (io), 8 CON_DN (io), 9 VBUS (power), 10 CHG_DET (out)

## IC BQ25611DRTWR BATTERY CHARGER WQFN-24
designator U?, comment BQ25611DRTWT
Charger IC Lithium Ion/Polymer 24-WQFN (4x4); Manufacturer: Texas Instruments; Product Status: New Product; Supplier 1: Mouser; Manufacturer Part Number: BQ25611DRTWT; RoHS: RoHS Compliant; Category: Battery Management; Stock 1: 208; Pricing 1: 1=4.41, 10=3.96, 100=3.34, 250=2.91, 500=2.76, 1000=2.33, 2500=2.21, 5000=2.13 (USD); Packaging: Cut Tape; Brand: Texas Instruments; Moisture Sensitive: Yes; Product Type: Battery Management; Standard Pack Qty: 250; Subcategory: PMIC - Power Management ICs; RoHS - Mouser: Y; Minimum Order Quantity: 1; Reeling: True; Supplier Part Number 1: 595-BQ25611DRTWT
footprint RTW0024 (WQFN24 Plastic Quad Flatpack No-Lead)
pins: 1 VAC (in), 2 D+ (in), 3 D- (in), 4 STAT (oc), 5 SCL (in), 6 SDA (io), 7 ~{INT} (oc), 8 NC, 9 ~{CE} (in), 10 BATSNS (in), 11 TS (in), 12 ~{QON} (in), 13 BAT (power), 14 BAT (power), 15 SYS (power), 16 SYS (power), 17 GND (power), 18 GND (power), 19 SW (power), 20 SW (power), 21 BTST (power), 22 REGN (power), 23 PMID (power), 24 VBUS (power), 25 EPAD (power)

## IC CP2102N USB TO UART BRIDGE QFN20
designator U?, comment CP2102N-A02-GQFN20R
USB Bridge, USB to UART USB 2.0 UART Interface 20-QFN (3x3); Manufacturer: Silicon Labs; Supplier 1: Digi-Key; Manufacturer Part Number: CP2102N-A02-GQFN20R; Stock 1: 5300; Pricing 1: 1=1.33, 25=1.2808, 100=1.2317 (USD); Supplier Part Number 1: 336-5886-1-ND
footprint QFN20C_3X3
footprint QFN20C_3X3-L
footprint QFN20C_3X3-M
pins: 1 GPIO.1/RS485 (io), 2 GPIO.0/CLK (io), 3 GND (power), 4 D+ (io), 5 D- (io), 6 VDD (power), 7 VREGIN (power), 8 VBUS (in), 9 ~{RSTb} (io), 10 NC, 11 ~{SUSPENDb} (out), 12 GND (power), 13 WAKEUP (in), 14 SUSPEND (out), 15 CTS (in), 16 RTS (out), 17 RXD (in), 18 TXD (out), 19 GPIO.3/RXT (io), 20 GPIO.2/TXT (io), 21 GND (power)

## IC CP2102N USB TO UART BRIDGE QFN28
designator U?, comment CP2102N-A02-GQFN28R
USB Bridge, USB to UART USB 2.0 UART Interface 28-QFN (5x5); Manufacturer: Silicon Labs; Supplier 1: Digi-Key; Manufacturer Part Number: CP2102N-A02-GQFN28R; Stock 1: 3461; Pricing 1: 1=1.4, 25=1.3516, 100=1.2995 (USD); ComponentLink1URL: https://4donline.ihs.com/images/VipMasterIC/IC/SILC/SILC-S-A0007770867/SILC-S-A0007770867-1.pdf?hkey=6D3A4C79FDBF58556ACFDE234799DDF0&src-supplier=Farnell; ComponentLink1Description: https://4donline.ihs.com/images/VipMasterIC/IC/SILC/SILC-S-A0007770867/SILC-S-A0007770867-1.pdf?hkey=6D3A4C79FDBF58556ACFDE234799DDF0&src-supplier=Farnell; Supplier Part Number 1: 336-5890-1-ND
footprint QFN28_5X5
pins: 1 DCD (in), 2 RI/CLK (io), 3 GND (power), 4 D+ (io), 5 D- (io), 6 VDD (power), 7 VREGIN (power), 8 VBUS (in), 9 ~{RSTb} (in), 10 NC, 11 ~{SUSPENDb} (out), 12 SUSPEND (out), 13 CHREN (out), 14 CHR1 (out), 15 CHR0 (out), 16 GPIO.3/WAKEUP (io), 17 GPIO.2/RS485 (io), 18 GPIO.1/RXT (io), 19 GPIO.0/TXT (io), 20 GPIO.6 (io), 21 GPIO.5 (io), 22 GPIO.4 (io), 23 CTS (in), 24 RTS (out), 25 RXD (in), 26 TXD (out), 27 DSR (in), 28 DTR (out), 29 GND (power)

## IC DRV10975Z BLDC MOTOR DRIVER VQFN-24
designator U?, comment DRV10975ZRHFR
Multiphase Motor Driver Power MOSFET Analog, I²C, PWM 24-VQFN (5x4); Manufacturer: Texas Instruments; Number of Outputs: 3 Output; Operating Frequency: 100 kHz; Output Current: 1.5 A; Output Voltage: 19 V; Development Kit: DRV10975EVM; Operating Supply Current: 5 mA; Operating Supply Voltage: 6.5 V to 18 V; Manufacturer Part Number: DRV10975ZRHFR; RoHS: RoHS Compliant; Category: Motor / Motion / Ignition Controllers & Drivers; Stock 1: 2979; Pricing 1: 1=2.73, 10=2.31, 100=1.85, 250=1.62, 500=1.58, 1000=1.25, 3000=1.21, 6000=1.16, 9000=1.14 (USD); Features: Buck Step Down Converter, Initial Position Detect (IPD), Rotor Lock Protection, SPI/I2C, Integrated; Operating Temperature Range: - 40 C to + 125 C; Package / Case: VQFN-24; Packaging: Cut Tape; Product: Brushless DC Motor Controllers; Series: DRV10975; Type: Half Bridge; Brand: Texas Instruments; Mounting Style: SMD/SMT; Maximum Operating Temperature: + 125 C; Minimum Operating Temperature: - 40 C; Moisture Sensitive: Yes; Product Type: Motor / Motion / Ignition Controllers & Drivers; Standard Pack Qty: 3000; Subcategory: PMIC - Power Management ICs; RoHS - Mouser: Y; Minimum Order Quantity: 1; Reeling: True; Supplier 1: Digi-Key; Supplier Part Number 1: 296-50214-1-ND
footprint RHF24_2P65X3P65 (Plastic Quad Flatpack No-Lead)
pins: 1 SW (power), 2 SWGND (power), 3 VREG (power), 4 V1P8 (power), 5 GND (power), 6 V3P3 (power), 7 SCL (in), 8 SDA (io), 9 FG (out), 10 SPEED (in), 11 DIR (in), 12 PGND (power), 13 PGND (power), 14 U (power), 15 U (power), 16 V (power), 17 V (power), 18 W (power), 19 W (power), 20 VCC (power), 21 VCC (power), 22 VCP (power), 23 CPP (power), 24 CPN (power), 25 EPAD (power)

## IC MT25QL256 FLASH 256M SPI 133MHZ 8WPDFN
designator U?, comment MT25QL256ABA1EW9-0SIT TR
256Mb, 3V, Multiple I/O Serial Flash Memory, Quad/Dual; Manufacturer: Micron Technology; Memory Type: Non-Volatile,FLASH; Frequency: 133MHz; Supplier 1: Digi-Key; Manufacturer Part Number: MT25QL256ABA1EW9-0SIT TR; Stock 1: 3545; Pricing 1: 1=3.45, 10=3.129, 25=3.0612, 50=3.0442, 100=2.7301, 250=2.72, 500=2.6198, 1000=2.4908 (USD); Mount: Surface Mount; Min Operating Temperature: -40°C; Max Operating Temperature: 85°C; Packaging: Cut Tape; Memory Size: 256Mb; ComponentLink1URL: https://www.micron.com/~/media/documents/products/data-sheet/nor-flash/serial-nor/mt25q/die-rev-a/mt25q_qljs_l_256_aba_0.pdf?src-supplier=Digi-Key; ComponentLink1Description: https://www.micron.com/~/media/documents/products/data-sheet/nor-flash/serial-nor/mt25q/die-rev-a/mt25q_qljs_l_256_aba_0.pdf?src-supplier=Digi-Key; Supplier Part Number 1: 557-1984-1-ND
footprint W-PDFN-8_8X6_P127
pins: 1 S# (in), 2 DQ1/DO, 3 DQ2/W#, 4 VSS, 5 DQ0/DI, 6 C (in), 7 DQ3/HOLD#, 8 VCC, 9 EPAD

## IC PCA9632TK,118 LED DRVR LIN DIM 25MA 8HVSON
designator U?, comment PCA9632TK,118  7B_I2C_ADDR: 0b1100010 (0x62)
LED Driver IC 4 Output Power Switch  PWM Dimming 25mA 8-HVSON (3x3); Manufacturer: NXP Semiconductors; Low Level Output Current: 100mA; Max Power Dissipation: 400mW; Max Supply Current: 108uA; Number of Segments: 4; Nominal Supply Current: 150uA; Min Supply Voltage: 2.3V; Max Supply Voltage: 5.5V; Frequency: 400kHz; Supplier 1: Digi-Key; Manufacturer Part Number: PCA9632TK,118; Stock 1: 2394; Pricing 1: 1=1.33, 10=1.192, 25=1.1312, 100=0.8686, 250=0.7676, 500=0.7272, 1000=0.5656, 2500=0.5373 (USD); Mount: Surface Mount; Number of Pins: 8; Contact Plating: Gold; Min Operating Temperature: -40°C; Max Operating Temperature: 85°C; Packaging: Tape and Reel; Package Quantity: 1; Power Dissipation: 400mW; Number of Outputs: 4; Output Voltage: 5.5V; Radiation Hardening: No; Lead Free: Lead Free; ComponentLink1URL: http://www.nxp.com/documents/data_sheet/PCA9632.pdf?src-supplier=Digi-Key; ComponentLink1Description: http://www.nxp.com/documents/data_sheet/PCA9632.pdf?src-supplier=Digi-Key; ComponentLink2URL: https://www.nxp.com/docs/en/brochure/75016950.pdf?src-supplier=Digi-Key; ComponentLink2Description: https://www.nxp.com/docs/en/brochure/75016950.pdf?src-supplier=Digi-Key; ComponentLink3URL: http://www.classic.nxp.com/documents/data_sheet/PCA9632.pdf?src-supplier=Avnet+Europe; ComponentLink3Description: http://www.classic.nxp.com/documents/data_sheet/PCA9632.pdf?src-supplier=Avnet+Europe; Supplier Part Number 1: 568-8715-1-ND
footprint SOT908-1
pins: 1 LED0 (out), 2 LED1 (out), 3 LED2 (out), 4 LED3 (out), 5 VSS (power), 6 SCL (in), 7 SDA (io), 8 VDD (power), 9 EP (power)

## IC RV-3028 RTC CLK/CALENDAR I2C 8-SMT
designator U?, comment RV-3028-C7 32.768KHZ 1PPM-TA-QC
2-Bit Bidirectional Voltage-Level Translator for Open-Drain Application; Manufacturer: Micro Crystal; Supplier 1: Digi-Key; Manufacturer Part Number: RV-3028-C7 32.768KHZ 1PPM-TA-QC; Stock 1: 4121; Pricing 1: 1=2.71, 10=2.435, 25=2.3016, 100=1.9949, 250=1.8926, 500=1.6982 (USD); Supplier Part Number 1: 2195-RV-3028-C732.768KHZ1PPM-TA-QCCT-ND
footprint 8-SON (3.2x1.5) (8-WCDFN)
pins: 1 CLKOUT (out), 2 ~{INT} (out), 3 SCL (in), 4 SDA (io), 5 VSS (power), 6 V_BKUP (power), 7 VDD (power), 8 EVI (in)

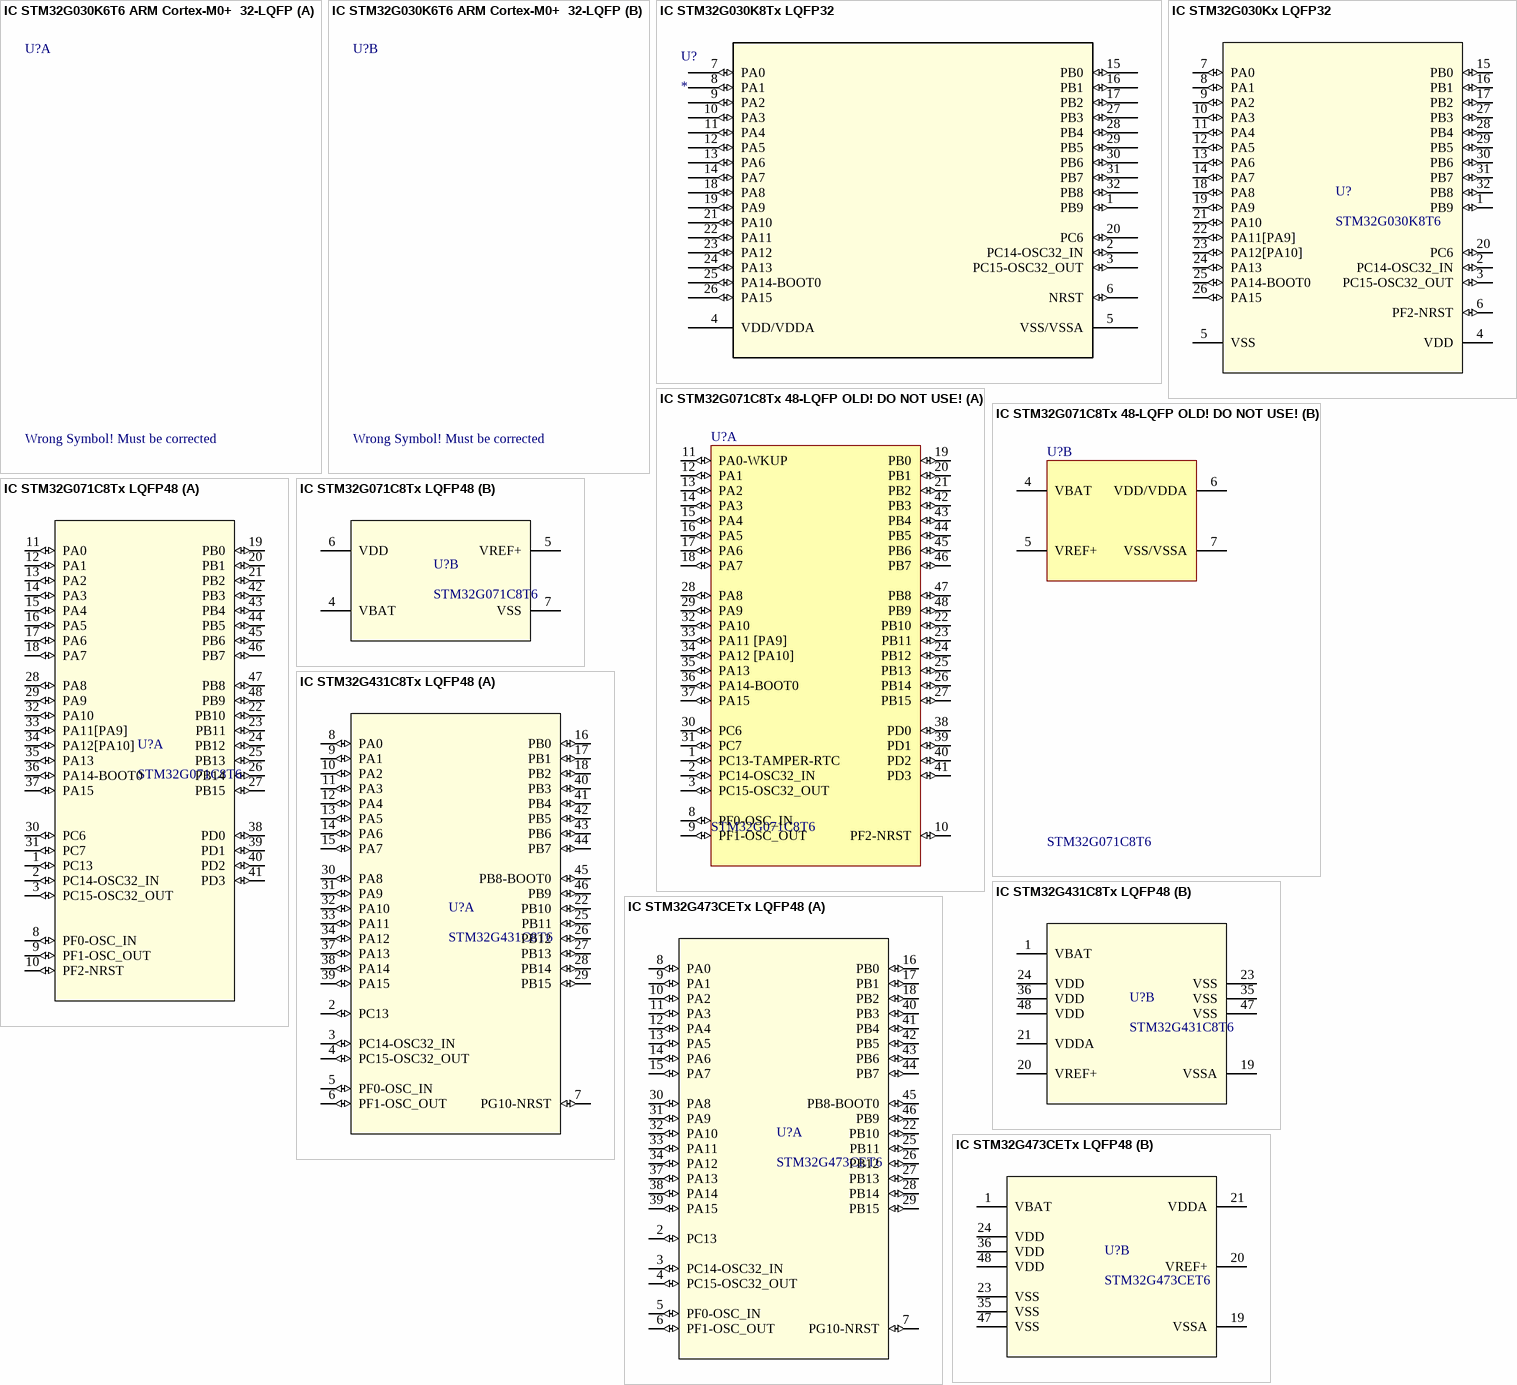
[diagram p1: symbols IC STM32G030K6T6 ARM Cortex-M0+  32-LQFP to IC STM32G473CETx LQFP48]

## IC STM32G030K6T6 ARM Cortex-M0+  32-LQFP
designator U?, comment Wrong Symbol! Must be corrected
ARM® Cortex®-M0+ STM32G0 Microcontroller IC 32-Bit 64MHz 32KB (32K x 8) FLASH 32-LQFP (7x7); Manufacturer: STMicroelectronics; Manufacturer Part Number: STM32G030K6T6; Interface Type: I2C, SPI, UART, USART, USB; ADC Resolution: 12 bit; Core: ARM Cortex M0+; Data Bus Width: 32 bit; Operating Supply Voltage: 2 V to 3.6 V; Processor Series: STM32G030; Supply Voltage - Max: 3.6 V; Supply Voltage - Min: 2 V; Product Status: New Product; Supplier 1: Mouser; RoHS: RoHS Compliant; Category: ARM Microcontrollers - MCU; Stock 1: 4058; Pricing 1: 1=1.34, 10=1.14, 100=0.879, 500=0.777, 1000=0.613, 2500=0.572, 5000=0.544, 10000=0.527 (USD); Package / Case: LQFP-32; Packaging: Tray; Product: MCU; Program Memory Type: Flash; Series: STM32G030K6; Brand: STMicroelectronics; Mounting Style: SMD/SMT; Program Memory Size: 32 kB; Maximum Clock Frequency: 64 MHz; Maximum Operating Temperature: + 85 C; Minimum Operating Temperature: - 40 C; Moisture Sensitive: Yes; Product Type: ARM Microcontrollers - MCU; Standard Pack Qty: 1500; Subcategory: Microcontrollers - MCU; Tradename: STM32; RoHS - Mouser: Y; Minimum Order Quantity: 1; Reeling: False; ComponentLink1URL: https://www.mouser.com/datasheet/2/389/dm00613878-1799578.pdf; ComponentLink1Description: https://www.mouser.com/datasheet/2/389/dm00613878-1799578.pdf; Supplier 2: Digi-Key; Supplier Part Number 1: 511-STM32G030K6T6; Supplier Part Number 2: 497-19769-ND

## IC STM32G030K8Tx LQFP32
designator U?
Imported; Manufacturer_Part_Number: STM32G0_LQFP32_T2; Vendor: STMicroelectronics; C: Copyright (C) 2018 Accelerated Designs. All rights reserved; Copyright: Copyright (C) 2018 Accelerated Designs. All rights reserved; Value: Value; Type: Type; RefDes: RefDes
footprint LQFP-32
pins: 1 PB9 (io), 2 PC14-OSC32_IN (io), 3 PC15-OSC32_OUT (io), 4 VDD/VDDA (power), 5 VSS/VSSA (power), 6 NRST (io), 7 PA0 (io), 8 PA1 (io), 9 PA2 (io), 10 PA3 (io), 11 PA4 (io), 12 PA5 (io), 13 PA6 (io), 14 PA7 (io), 15 PB0 (io), 16 PB1 (io), 17 PB2 (io), 18 PA8 (io), 19 PA9 (io), 20 PC6 (io), 21 PA10 (io), 22 PA11 (io), 23 PA12 (io), 24 PA13 (io), 25 PA14-BOOT0 (io), 26 PA15 (io), 27 PB3 (io), 28 PB4 (io), 29 PB5 (io), 30 PB6 (io), 31 PB7 (io), 32 PB8 (io)

## IC STM32G030Kx LQFP32
designator U?, comment STM32G030K8T6
ARM® Cortex®-M0+ STM32G0 Microcontroller IC 32-Bit 64MHz 64KB (64K x 8) FLASH 32-LQFP (7x7); Manufacturer: STMicroelectronics; Interface Type: I2C, SPI, UART, USART, USB; ADC Resolution: 12 bit; Core: ARM Cortex M0+; Data Bus Width: 32 bit; Operating Supply Voltage: 2 V to 3.6 V; Supply Voltage - Max: 3.6 V; Supply Voltage - Min: 2 V; Product Status: New Product; Supplier 1: Mouser; Manufacturer Part Number: STM32G030K8T6; RoHS: RoHS Compliant; Category: ARM Microcontrollers - MCU; Stock 1: 17295; Pricing 1: 1=1.43, 10=1.21, 100=0.936, 500=0.827, 1000=0.653, 2500=0.609, 5000=0.579, 10000=0.561 (USD); Package / Case: LQFP-32; Packaging: Tray; Product: MCU; Program Memory Type: Flash; Series: STM32G030K8; Brand: STMicroelectronics; Mounting Style: SMD/SMT; Program Memory Size: 64 kB; Maximum Clock Frequency: 64 MHz; Maximum Operating Temperature: + 85 C; Minimum Operating Temperature: - 40 C; Moisture Sensitive: Yes; Processor Series: STM32G030; Product Type: ARM Microcontrollers - MCU; Standard Pack Qty: 1500; Subcategory: Microcontrollers - MCU; Tradename: STM32; RoHS - Mouser: Y; Minimum Order Quantity: 1; Reeling: False; ComponentLink1URL: https://www.mouser.com/datasheet/2/389/dm00613878-1799578.pdf; ComponentLink1Description: https://www.mouser.com/datasheet/2/389/dm00613878-1799578.pdf; Supplier Part Number 1: 511-STM32G030K8T6
footprint LQFP-32
pins: 1 PB9 (io), 2 PC14-OSC32_IN (io), 3 PC15-OSC32_OUT (io), 4 VDD (power), 5 VSS (power), 6 PF2-NRST (io), 7 PA0 (io), 8 PA1 (io), 9 PA2 (io), 10 PA3 (io), 11 PA4 (io), 12 PA5 (io), 13 PA6 (io), 14 PA7 (io), 15 PB0 (io), 16 PB1 (io), 17 PB2 (io), 18 PA8 (io), 19 PA9 (io), 20 PC6 (io), 21 PA10 (io), 22 PA11[PA9] (io), 23 PA12[PA10] (io), 24 PA13 (io), 25 PA14-BOOT0 (io), 26 PA15 (io), 27 PB3 (io), 28 PB4 (io), 29 PB5 (io), 30 PB6 (io), 31 PB7 (io), 32 PB8 (io)

## IC STM32G071C8Tx 48-LQFP OLD! DO NOT USE!
designator U?, comment STM32G071C8T6
ARM® Cortex®-M0+ STM32G0 Microcontroller IC 32-Bit 64MHz 64KB (64K x 8) FLASH 48-LQFP (7x7); Manufacturer: STMicroelectronics; Data RAM Size: 36 kB; Data RAM Type: SRAM; Interface Type: I2C, SPI, USART, UART, USB; Number of I/Os: 44 I/O; ADC Resolution: 12 bit; Analog Supply Voltage: 1.62 V to 3.6 V; Core: ARM Cortex M0+; Data Bus Width: 32 bit; Number of ADC Channels: 14 Channel; Operating Supply Voltage: 1.7 V to 3.6 V; Supply Voltage - Max: 3.6 V; Supply Voltage - Min: 1.7 V; Watchdog Timers: Watchdog Timer, Windowed; Product Status: New Product; Supplier 1: Mouser; Manufacturer Part Number: STM32G071C8T6; RoHS: RoHS Compliant; Category: ARM Microcontrollers - MCU; Stock 1: 1616; Pricing 1: 1=2.79, 10=2.36, 100=2.05, 250=1.94, 500=1.74, 1000=1.40, 2500=1.37, 5000=1.33 (USD); Package / Case: LQFP-48; Packaging: Tray; Product: MCU; Program Memory Type: Flash; Series: STM32G071C8; Brand: STMicroelectronics; Mounting Style: SMD/SMT; Program Memory Size: 64 kB; DAC Resolution: 12 bit; Maximum Clock Frequency: 64 MHz; Maximum Operating Temperature: + 85 C; Minimum Operating Temperature: - 40 C; Moisture Sensitive: Yes; Processor Series: STM32G0; Product Type: ARM Microcontrollers - MCU; Standard Pack Qty: 1500; Subcategory: Microcontrollers - MCU; Tradename: STM32; RoHS - Mouser: Y; Minimum Order Quantity: 1; Reeling: False; ComponentLink1URL: https://www.mouser.com/datasheet/2/389/dm00412180-1799303.pdf; ComponentLink1Description: https://www.mouser.com/datasheet/2/389/dm00412180-1799303.pdf; Supplier Part Number 1: 511-STM32G071C8T6
footprint LQFP-48_STM
footprint LQFP-48_STM-L
footprint LQFP-48_STM-M
part A pins: 1 PC13-TAMPER-RTC (io) "PC13-TAMPER-RTC/PC13/TAMPER-RTC", 2 PC14-OSC32_IN (io) "PC14-OSC32_IN/PC14/OSC32_IN", 3 PC15-OSC32_OUT (io) "PC15-OSC32_OUT/PC15/OSC32_OUT", 8 PF0-OSC_IN (io) "PF0/OSC_IN", 9 PF1-OSC_OUT (io) "PF1/OSC_OUT", 10 PF2-NRST (io), 11 PA0-WKUP (io) "PA0-WKUP/PA0/WKUP/USART2_CTS/ADC12_IN0/TIM2_CH1_ETR", 12 PA1 (io) "PA1/USART2_RTS/ADC12_IN1/TIM2_CH2", 13 PA2 (io) "PA2/USART2_TX/ADC12_IN2/TIM2_CH3", 14 PA3 (io) "PA3/USART2_RX/ADC12_IN3/TIM2_CH4", 15 PA4 (io) "PA4/SPI1_NSS/USART2_CK/ADC12_IN4", 16 PA5 (io) "PA5/SPI1_SCK/ADC12_IN5", 17 PA6 (io) "PA6/SPI1_MISO/ADC12_IN6/TIM3_CH1/TIM1_BKIN", 18 PA7 (io) "PA7/SPI1_MOSI/ADC12_IN7/TIM3_CH2/TIM1_CH1N", 19 PB0 (io) "PB0/ADC12_IN8/TIM3_CH3/TIM1_CH2N", 20 PB1 (io) "PB1/ADC12_IN9/TIM3_CH4/TIM1_CH3N", 21 PB2 (io) "PB2/BOOT1", 22 PB10 (io) "PB10/I2C2_SCL/USART3_TX/TIM2_CH3", 23 PB11 (io) "PB11/I2C2_SDA/USART3_RX/TIM2_CH4", 24 PB12 (io) "PB12/SPI2_NSS/I2C2_SMBAl/USART3_CK/TIM1_BKIN", 25 PB13 (io) "PB13/SPI2_SCK/USART3_CTS/TIM1_CH1N", 26 PB14 (io) "PB14/SPI2_MISO/USART3_RTS/TIM1_CH2N", 27 PB15 (io) "PB15/SPI2_MOSI/TIM1_CH3N", 28 PA8 (io) "PA8/USART1_CK/TIM1_CH1/MCO", 29 PA9 (io) "PA9/USART1_TX/TIM1_CH2", 30 PC6 (io), 31 PC7 (io), 32 PA10 (io) "PA10/USART1_RX/TIM1_CH3", 33 PA11 [PA9] (io) "PA11", 34 PA12 [PA10] (io) "PA12", 35 PA13 (io) "PA13/JTMS/SWDIO", 36 PA14-BOOT0 (io) "PA14/SWCLK", 37 PA15 (io), 38 PD0 (io), 39 PD1 (io), 40 PD2 (io), 41 PD3 (io), 42 PB3 (io) "PB3/JTDO/TIM2_CH2/TRACESWO/SPI1_SCK", 43 PB4 (io) "PB4/NJTRST/TIM3_CH1/SPI1_MISO", 44 PB5 (io) "PB5/I2C1_SMBAI/TIM3_CH2/SPI1_MOSI", 45 PB6 (io) "PB6/I2C1_SCL/TIM4_CH1/USART1_TX", 46 PB7 (io) "PB7/I2C1_SDA/TIM4_CH2/USART1_RX", 47 PB8 (io) "PB8/TIM4_CH3/I2C1_SCL/CANRX", 48 PB9 (io) "PB9/TIM4_CH4/I2C1_SDA/CANTX"
part B pins: 4 VBAT (power), 5 VREF+ (power), 6 VDD/VDDA (power), 7 VSS/VSSA (power)

## IC STM32G071C8Tx LQFP48
designator U?, comment STM32G071C8T6
ARM® Cortex®-M0+ STM32G0 Microcontroller IC 32-Bit 64MHz 64KB (64K x 8) FLASH 48-LQFP (7x7); Manufacturer: STMicroelectronics; Data RAM Size: 36 kB; Data RAM Type: SRAM; Interface Type: I2C, SPI, USART, UART, USB; Number of I/Os: 44 I/O; ADC Resolution: 12 bit; Analog Supply Voltage: 1.62 V to 3.6 V; Core: ARM Cortex M0+; Data Bus Width: 32 bit; Number of ADC Channels: 14 Channel; Operating Supply Voltage: 1.7 V to 3.6 V; Supply Voltage - Max: 3.6 V; Supply Voltage - Min: 1.7 V; Watchdog Timers: Watchdog Timer, Windowed; Product Status: New Product; Supplier 1: Mouser; Manufacturer Part Number: STM32G071C8T6; RoHS: RoHS Compliant; Category: ARM Microcontrollers - MCU; Stock 1: 1591; Pricing 1: 1=2.79, 10=2.36, 100=2.05, 250=1.94, 500=1.74, 1000=1.40, 2500=1.37, 5000=1.33 (USD); Package / Case: LQFP-48; Packaging: Tray; Product: MCU; Program Memory Type: Flash; Series: STM32G071C8; Brand: STMicroelectronics; Mounting Style: SMD/SMT; Program Memory Size: 64 kB; DAC Resolution: 12 bit; Maximum Clock Frequency: 64 MHz; Maximum Operating Temperature: + 85 C; Minimum Operating Temperature: - 40 C; Moisture Sensitive: Yes; Processor Series: STM32G0; Product Type: ARM Microcontrollers - MCU; Standard Pack Qty: 1500; Subcategory: Microcontrollers - MCU; Tradename: STM32; RoHS - Mouser: Y; Minimum Order Quantity: 1; Reeling: False; ComponentLink1URL: https://www.mouser.com/datasheet/2/389/dm00412180-1799303.pdf; ComponentLink1Description: https://www.mouser.com/datasheet/2/389/dm00412180-1799303.pdf; Supplier Part Number 1: 511-STM32G071C8T6
footprint LQFP-48
part A pins: 1 PC13 (io), 2 PC14-OSC32_IN (io), 3 PC15-OSC32_OUT (io), 8 PF0-OSC_IN (io), 9 PF1-OSC_OUT (io), 10 PF2-NRST (io), 11 PA0 (io), 12 PA1 (io), 13 PA2 (io), 14 PA3 (io), 15 PA4 (io), 16 PA5 (io), 17 PA6 (io), 18 PA7 (io), 19 PB0 (io), 20 PB1 (io), 21 PB2 (io), 22 PB10 (io), 23 PB11 (io), 24 PB12 (io), 25 PB13 (io), 26 PB14 (io), 27 PB15 (io), 28 PA8 (io), 29 PA9 (io), 30 PC6 (io), 31 PC7 (io), 32 PA10 (io), 33 PA11[PA9] (io), 34 PA12[PA10] (io), 35 PA13 (io), 36 PA14-BOOT0 (io), 37 PA15 (io), 38 PD0 (io), 39 PD1 (io), 40 PD2 (io), 41 PD3 (io), 42 PB3 (io), 43 PB4 (io), 44 PB5 (io), 45 PB6 (io), 46 PB7 (io), 47 PB8 (io), 48 PB9 (io)
part B pins: 4 VBAT (power), 5 VREF+ (power), 6 VDD (power), 7 VSS (power)

## IC STM32G431C8Tx LQFP48
designator U?, comment STM32G431C8T6
ARM® Cortex®-M4 STM32G4 Microcontroller IC 32-Bit 170MHz 64KB (64K x 8) FLASH 48-LQFP (7x7); Manufacturer: STMicroelectronics; Data RAM Size: 32 kB; Data RAM Type: SRAM; Interface Type: I2C, SPI, UART, USART, USB; Number of I/Os: 38 I/O; ADC Resolution: 12 bit; Analog Supply Voltage: 1.62 V to 3.6 V; Core: ARM Cortex M4; Data Bus Width: 32 bit; I/O Voltage: 5 V; Number of ADC Channels: 17 Channel; Operating Supply Voltage: 1.71 V to 3.6 V; Supply Voltage - Max: 3.6 V; Supply Voltage - Min: 1.71 V; Watchdog Timers: Watchdog Timer; Product Status: New Product; Supplier 1: Mouser; Manufacturer Part Number: STM32G431C8T6; RoHS: RoHS Compliant; Category: ARM Microcontrollers - MCU; Stock 1: 1221; Pricing 1: 1=4.87, 10=4.13, 100=3.58, 250=3.39, 500=3.04, 1000=2.37, 5000=2.33 (USD); Package / Case: LQFP-48; Packaging: Tray; Product: MCU+FPU; Program Memory Type: Flash; Series: STM32G431x6; Brand: STMicroelectronics; Mounting Style: SMD/SMT; Program Memory Size: 64 kB; DAC Resolution: 12 bit; Maximum Clock Frequency: 170 MHz; Maximum Operating Temperature: + 85 C; Minimum Operating Temperature: - 40 C; Moisture Sensitive: Yes; Processor Series: STM32G431; Product Type: ARM Microcontrollers - MCU; Standard Pack Qty: 1500; Subcategory: Microcontrollers - MCU; Tradename: STM32; RoHS - Mouser: Y; Minimum Order Quantity: 1; Reeling: False; ComponentLink1URL: https://www.mouser.com/datasheet/2/389/dm00507199-1799366.pdf; ComponentLink1Description: https://www.mouser.com/datasheet/2/389/dm00507199-1799366.pdf; Supplier Part Number 1: 511-STM32G431C8T6
footprint LQFP48-7x7mm
part A pins: 2 PC13 (io), 3 PC14-OSC32_IN (io), 4 PC15-OSC32_OUT (io), 5 PF0-OSC_IN (io), 6 PF1-OSC_OUT (io), 7 PG10-NRST (io), 8 PA0 (io), 9 PA1 (io), 10 PA2 (io), 11 PA3 (io), 12 PA4 (io), 13 PA5 (io), 14 PA6 (io), 15 PA7 (io), 16 PB0 (io), 17 PB1 (io), 18 PB2 (io), 22 PB10 (io), 25 PB11 (io), 26 PB12 (io), 27 PB13 (io), 28 PB14 (io), 29 PB15 (io), 30 PA8 (io), 31 PA9 (io), 32 PA10 (io), 33 PA11 (io), 34 PA12 (io), 37 PA13 (io), 38 PA14 (io), 39 PA15 (io), 40 PB3 (io), 41 PB4 (io), 42 PB5 (io), 43 PB6 (io), 44 PB7 (io), 45 PB8-BOOT0 (io), 46 PB9 (io)
part B pins: 1 VBAT (power), 19 VSSA (power), 20 VREF+ (power), 21 VDDA (power), 23 VSS (power), 24 VDD (power), 35 VSS (power), 36 VDD (power), 47 VSS (power), 48 VDD (power)

## IC STM32G473CETx LQFP48
designator U?, comment STM32G473CET6
ARM® Cortex®-M4 STM32G4 Microcontroller IC 32-Bit 170MHz 512KB (512K x 8) FLASH 48-LQFP (7x7); Manufacturer: STMicroelectronics; Supplier 1: Digi-Key; Manufacturer Part Number: STM32G473CET6; Stock 1: 1153; Pricing 1: 1=7.4, 10=6.681, 25=6.37, 100=5.531, 250=5.2824, 500=4.8163, 1000=4.1949, 2500=4.0395, 5000=3.8841 (USD); ComponentLink1URL: http://www.farnell.com/datasheets/2818775.pdf?src-supplier=Farnell; ComponentLink1Description: http://www.farnell.com/datasheets/2818775.pdf?src-supplier=Farnell; ComponentLink2URL: http://www.farnell.com/datasheets/2818775.pdf?src-supplier=Newark; ComponentLink2Description: http://www.farnell.com/datasheets/2818775.pdf?src-supplier=Newark; Supplier Part Number 1: 497-STM32G473CET6-ND
footprint LQFP48-7x7mm
part A pins: 2 PC13 (io), 3 PC14-OSC32_IN (io), 4 PC15-OSC32_OUT (io), 5 PF0-OSC_IN (io), 6 PF1-OSC_OUT (io), 7 PG10-NRST (io), 8 PA0 (io), 9 PA1 (io), 10 PA2 (io), 11 PA3 (io), 12 PA4 (io), 13 PA5 (io), 14 PA6 (io), 15 PA7 (io), 16 PB0 (io), 17 PB1 (io), 18 PB2 (io), 22 PB10 (io), 25 PB11 (io), 26 PB12 (io), 27 PB13 (io), 28 PB14 (io), 29 PB15 (io), 30 PA8 (io), 31 PA9 (io), 32 PA10 (io), 33 PA11 (io), 34 PA12 (io), 37 PA13 (io), 38 PA14 (io), 39 PA15 (io), 40 PB3 (io), 41 PB4 (io), 42 PB5 (io), 43 PB6 (io), 44 PB7 (io), 45 PB8-BOOT0 (io), 46 PB9 (io)
part B pins: 1 VBAT (power), 19 VSSA (power), 20 VREF+ (power), 21 VDDA (power), 23 VSS (power), 24 VDD (power), 35 VSS (power), 36 VDD (power), 47 VSS (power), 48 VDD (power)

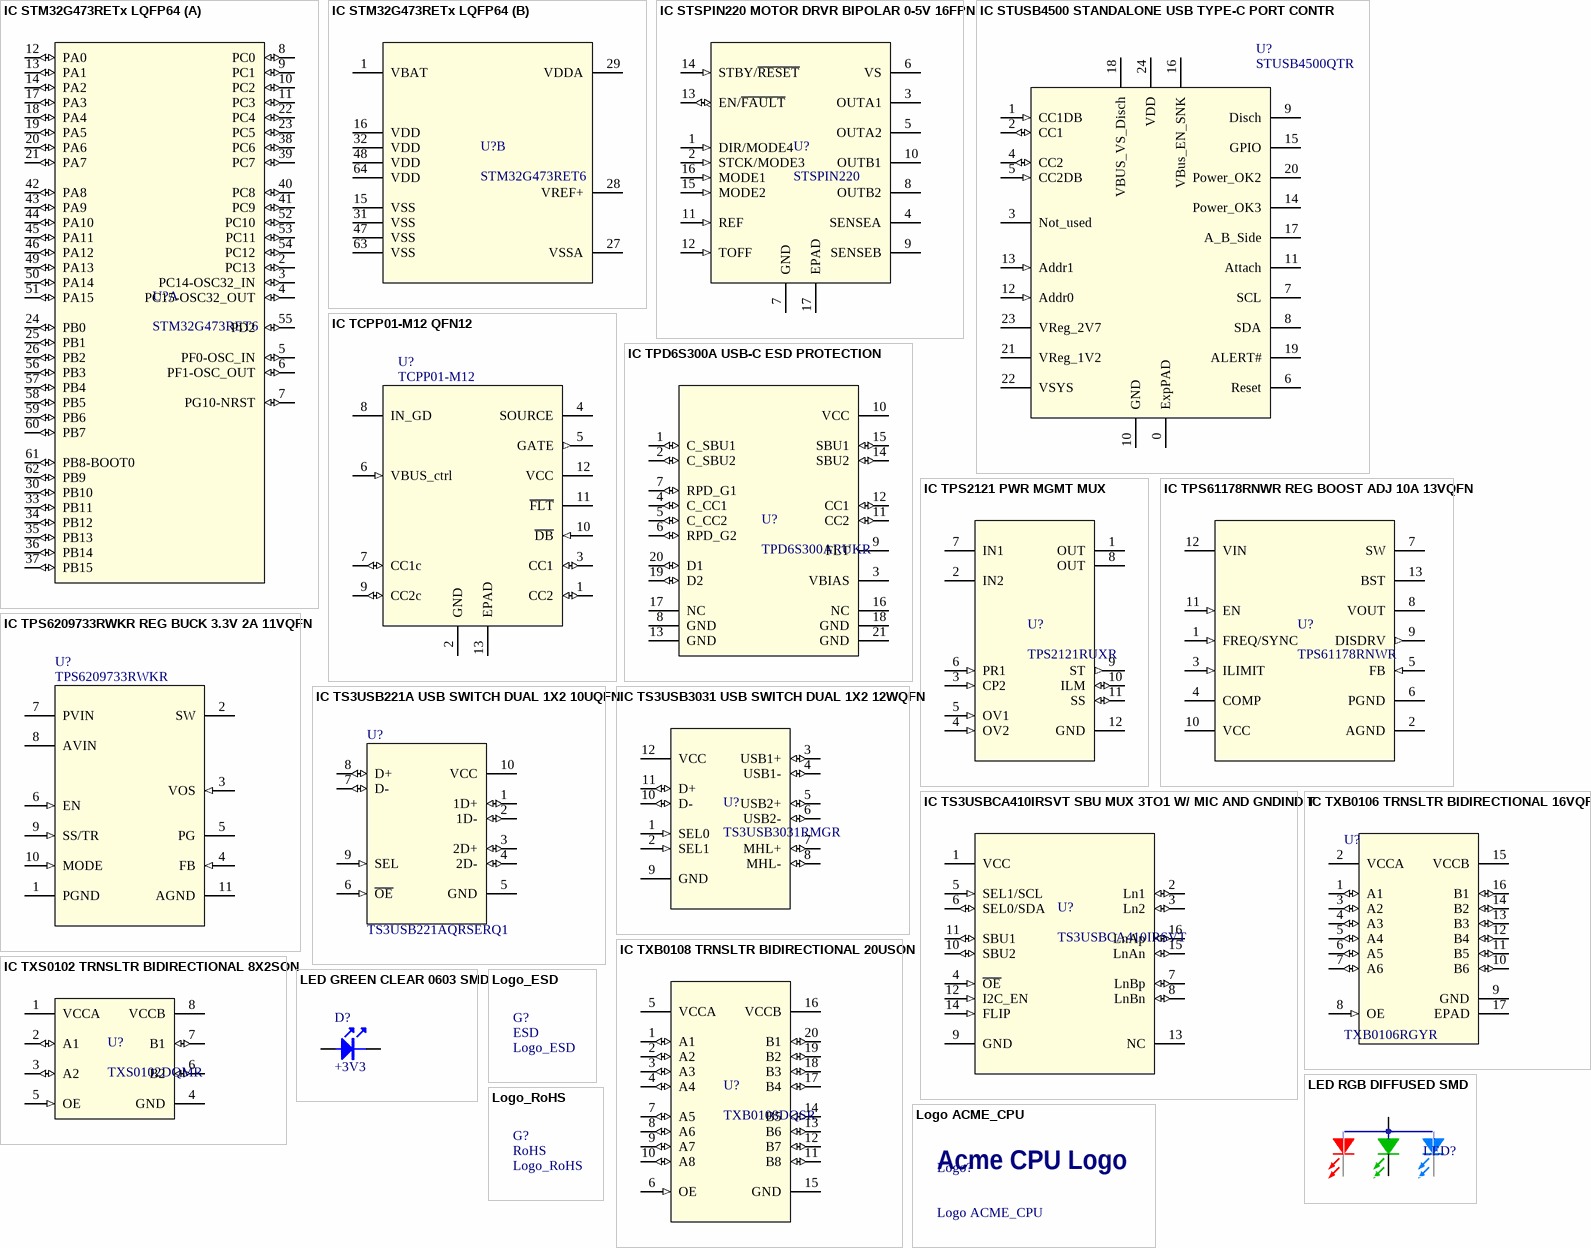
[diagram p2: symbols IC STM32G473RETx LQFP64 to Logo_RoHS]